# EAGLE library part HEADER_1X9 (library logic-supply)
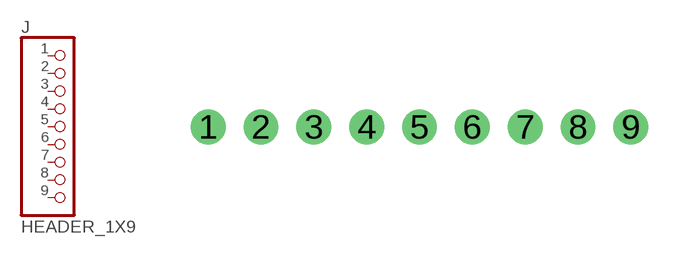
[diagram p35: symbol with the pads of HEADER_1X9; footprint HEADER_1X9]

Designator prefix J

## HEADER_1X9  [HEADER_1X9]
1  1  pas
2  2  pas
3  3  pas
4  4  pas
5  5  pas
6  6  pas
7  7  pas
8  8  pas
9  9  pas

## Footprint HEADER_1X9 (pad centres in mm)
drill 1 pad 1.676: 1 0,0; 2 2.54,0; 3 5.08,0; 4 7.62,0; 5 10.16,0; 6 12.7,0; 7 15.24,0; 8 17.78,0; 9 20.32,0